# EAGLE library part 44R-JMCS-G (library jst-jmc)
0.5mm Pitch SMT Board to Board Connector Source: http://www.jst-mfg.com/product/pdf/jpn/JMC.pdf http://www.jst-mfg.com/product/detail.php?series=147
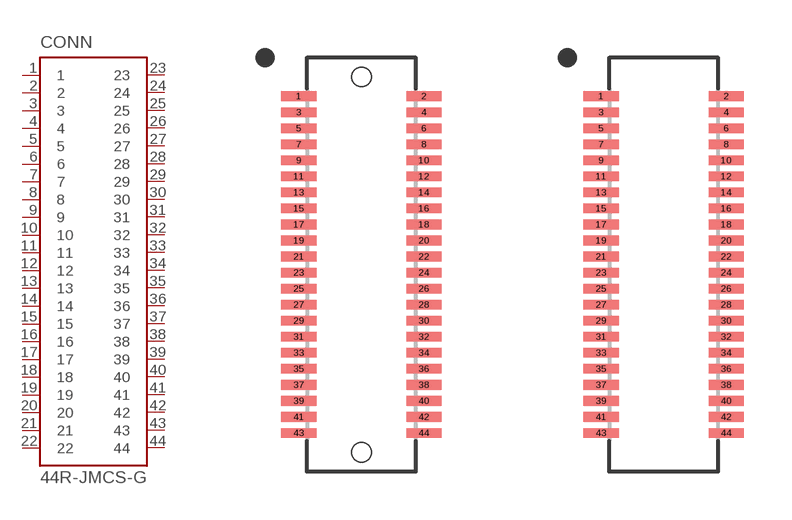
[diagram p18: symbol with the pads of 44R-JMCS-G-B-TF(S); footprints 44R-JMCS-G-B-TF(S), 44R-JMCS-G-TF(S)]

Designator prefix CONN

## 44R-JMCS-G-B-TE(S)  [44R-JMCS-G-B-TF(S)]
1  1
2  2
3  3
4  4
5  5
6  6
7  7
8  8
9  9
10  10
11  11
12  12
13  13
14  14
15  15
16  16
17  17
18  18
19  19
20  20
21  21
22  22
23  23
24  24
25  25
26  26
27  27
28  28
29  29
30  30
31  31
32  32
33  33
34  34
35  35
36  36
37  37
38  38
39  39
40  40
41  41
42  42
43  43
44  44

## 44R-JMCS-G-TE(S)  [44R-JMCS-G-TF(S)]
Pads as for 44R-JMCS-G-B-TF(S)

## Footprint 44R-JMCS-G-B-TF(S) (pad centres in mm)
smd 1.1 x 0.3: 1 -1.95,5.25; 2 1.95,5.25; 3 -1.95,4.75; 4 1.95,4.75; 5 -1.95,4.25; 6 1.95,4.25; 7 -1.95,3.75; 8 1.95,3.75; 9 -1.95,3.25; 10 1.95,3.25; 11 -1.95,2.75; 12 1.95,2.75; 13 -1.95,2.25; 14 1.95,2.25; 15 -1.95,1.75; 16 1.95,1.75; 17 -1.95,1.25; 18 1.95,1.25; 19 -1.95,0.75; 20 1.95,0.75; 21 -1.95,0.25; 22 1.95,0.25; 23 -1.95,-0.25; 24 1.95,-0.25; 25 -1.95,-0.75; 26 1.95,-0.75; 27 -1.95,-1.25; 28 1.95,-1.25; 29 -1.95,-1.75; 30 1.95,-1.75; 31 -1.95,-2.25; 32 1.95,-2.25; 33 -1.95,-2.75; 34 1.95,-2.75; 35 -1.95,-3.25; 36 1.95,-3.25; 37 -1.95,-3.75; 38 1.95,-3.75; 39 -1.95,-4.25; 40 1.95,-4.25; 41 -1.95,-4.75; 42 1.95,-4.75; 43 -1.95,-5.25; 44 1.95,-5.25
hole 0.6 at 0,5.85
hole 0.6 at 0,-5.85

## Footprint 44R-JMCS-G-TF(S) (pad centres in mm)
smd 1.1 x 0.3: 1 -1.95,5.25; 2 1.95,5.25; 3 -1.95,4.75; 4 1.95,4.75; 5 -1.95,4.25; 6 1.95,4.25; 7 -1.95,3.75; 8 1.95,3.75; 9 -1.95,3.25; 10 1.95,3.25; 11 -1.95,2.75; 12 1.95,2.75; 13 -1.95,2.25; 14 1.95,2.25; 15 -1.95,1.75; 16 1.95,1.75; 17 -1.95,1.25; 18 1.95,1.25; 19 -1.95,0.75; 20 1.95,0.75; 21 -1.95,0.25; 22 1.95,0.25; 23 -1.95,-0.25; 24 1.95,-0.25; 25 -1.95,-0.75; 26 1.95,-0.75; 27 -1.95,-1.25; 28 1.95,-1.25; 29 -1.95,-1.75; 30 1.95,-1.75; 31 -1.95,-2.25; 32 1.95,-2.25; 33 -1.95,-2.75; 34 1.95,-2.75; 35 -1.95,-3.25; 36 1.95,-3.25; 37 -1.95,-3.75; 38 1.95,-3.75; 39 -1.95,-4.25; 40 1.95,-4.25; 41 -1.95,-4.75; 42 1.95,-4.75; 43 -1.95,-5.25; 44 1.95,-5.25